# Altium footprint library Voltage Regulator.PcbLib: 8 footprints
Each footprint in its own frame and in the unit in brackets; x right, y up, seen from the top. Pads: shape width x height; smd on the part's side, far side on the other; paste and mask are expansions set on the pad; w line width, h text height; cw(c..) or ccw(c..) is an arc to the next point about the centre after c.
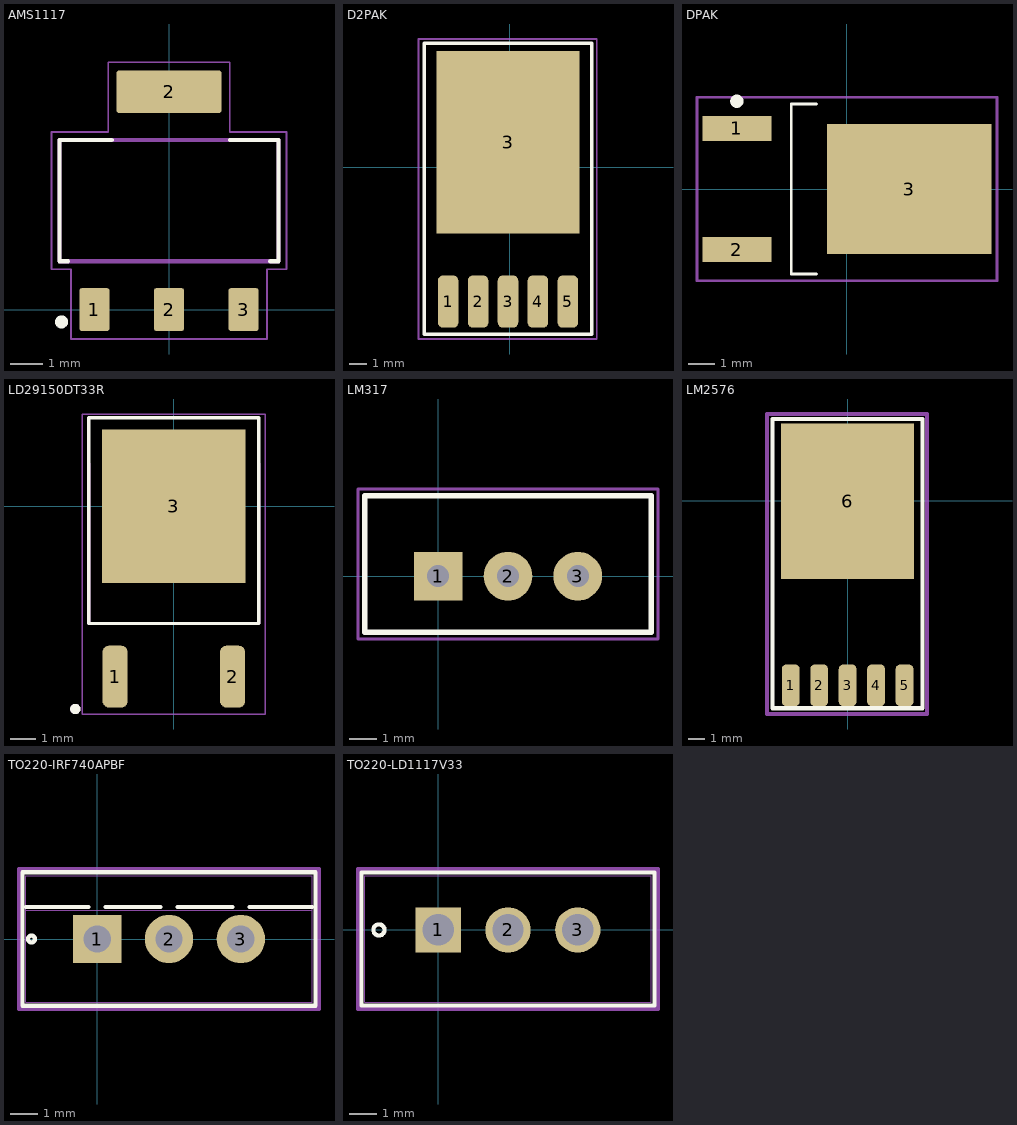
[diagram p0: the footprints below, top view; thin cyan lines are the x and y axes]

## AMS1117 [mm]
pads (4):
  rrect15% 0.93x1.31 smd: 1(-2.29,0) 2(0,0) 3(2.29,0)
  rrect15% 3.24x1.31 smd: 2(0,6.69)
Top Overlay:
  circle w0.2: c-3.302,-0.381 r0.1
  lines w0.127: -3.1,1.485 -3.36,1.485 -3.36,5.205 -1.76,5.205 ; 1.87,5.205 3.36,5.205 3.36,1.485 3.11,1.485
Mechanical 13:
  lines w0.127: -3.36,1.485 -3.36,5.205 3.36,5.205 3.36,1.485 -3.36,1.485
Mechanical 15:
  lines w0.05: -3.61,1.235 -3.61,5.455 -1.87,5.455 -1.87,7.595 1.87,7.595 1.87,5.455 3.61,5.455 3.61,1.235 3.01,1.235 3.01,-0.905 -3.01,-0.905 -3.01,1.235 -3.61,1.235
3D body "AMS1117.STEP": height 1.9, standoff 0.04, extent -3.252,-0.071 3.253,6.929

## D2PAK [mm]
pads (6):
  rrect50% 1.2x3.05 smd: 1(-3.6,-7.85) 2(-1.85,-7.85) 3(-0.1,-7.85) 4(1.65,-7.85) 5(3.4,-7.85)
  rect 8.38x10.66 smd mask+0.102: 3(-0.1,1.45)
Top Overlay:
  lines w0.2: -5,-9.75 4.8,-9.75 4.8,-3.75 4.8,7.25 -5,7.25 -5,-9.75
Mechanical 3:
  lines w0.1: -5.334,-10.033 -5.334,7.493 5.08,7.493 5.08,-10.033 -5.334,-10.033
Mechanical 15:
  lines w0.1: -1.25,0 1,0 ; 0,-1.25 0,1
3D body "TO263-5-1.stp": height 4.22, standoff 0, extent -5.011,-9.011 4.811,5.591

## DPAK [mm] "D-PAK, 3-Pads, Body 6,20x6,56mm (max), IPC Medium Density"
height 2.4
pads (3):
  rect 2.6x0.95 smd mask+0.05: 1(-4.15,2.28) 2(-4.15,-2.28)
  rect 6.2x4.9 smd mask+0.05: 3(2.35,0)
Top Overlay:
  circle w0.25: c-4.15,3.305 r0.125
  lines w0.1: -1.15,-3.2 -2.1,-3.2 -2.1,3.2 -1.15,3.2
Mechanical 15:
  lines w0.1: -0.5,0 0.5,0 ; 0,-0.5 0,0.5 ; -5.65,-3.45 -5.65,3.45 5.65,3.45 5.65,-3.45 -5.65,-3.45
3D body "DPAK.step": height 3.4, standoff 0, extent -4.275,-3.2 5.45,3.2

## LD29150DT33R [mm]
pads (3):
  rrect50% 0.98x2.4 smd: 1(-2.28,-6.62) 2(2.28,-6.62)
  rect 5.57x5.96 smd paste-4: 3(0,0)
Top Overlay:
  circle w0.2: c-3.825,-7.875 r0.1
  lines w0.127: -3.3,-4.557 3.3,-4.557 3.3,3.429 -3.3,3.429 -3.3,-4.557
Top Paste:
  region: -0.53,2.45 -0.53,0.53 -2.26,0.53 -2.26,2.45
  region: 2.26,2.45 2.26,0.53 0.53,0.53 0.53,2.45
  region: 2.26,-0.53 2.26,-2.45 0.53,-2.45 0.53,-0.53
  region: -0.53,-0.53 -0.53,-2.45 -2.26,-2.45 -2.26,-0.53
Mechanical 3:
  lines w0.05: -3.55,3.225 -3.55,3.575 3.55,3.575 3.55,3.225
Mechanical 13:
  circle w0.2: c-3.825,-7.875 r0.1
  lines w0.127: -3.3,1.642 -3.3,-4.557 3.3,-4.557 3.3,1.642
Mechanical 15:
  lines w0.05: -3.55,3.23 -3.55,-8.07 3.55,-8.07 3.55,3.23
3D body "to252-3_p4-56_l6-54_w6-04.stp": height 2.29, standoff -0.01, extent -3.27,-7.239 3.27,2.429

## LM317 [mil]
pads (3):
  rect 70x70 hole 31.5: 1(0,0)
  round 70 hole 31.5: 2(100,0) 3(200,0)
Top Overlay:
  lines w7.87: -105,-80 305,-80 305,115 -105,115 -105,-80
Mechanical 15:
  lines w3.94: -115,-90 315,-90 315,125 -115,125 -115,-90
3D body "LM317.STEP": height 748.03, standoff -364.17, extent -97.7,-71.74 296,107

## LM2576 [mm]
pads (6):
  rrect50% 1.07x2.5 smd mask+0.102: 1(-3.425,-11.1) 2(-1.713,-11.1) 3(0,-11.1) 4(1.712,-11.1) 5(3.425,-11.1)
  rect 8x9.347 smd mask+0.102: 6(0,-0.025)
Top Overlay:
  lines w0.254: -4.525,-12.475 4.5,-12.475 4.5,4.925 -4.525,4.925 -4.525,-12.475
Mechanical 3:
  lines w0.254: -4.85,-12.825 -4.85,5.225 4.775,5.225 4.775,-12.825 -4.85,-12.825
3D body "TO263-5-1.stp": height 4.22, standoff 0, extent -4.911,-11.1 4.911,3.502

## TO220-IRF740APBF [mil]
pads (3):
  rect 70x70 / inner round 70 / far side round 70 hole 39.37 mask+0: 1(0,0)
  round 70 hole 39.37 mask+0: 2(103.94,0) 3(207.87,0)
Top Overlay:
  circle w6: c-95,0 r5
  lines w6: -103.06,46.5 -12.3,46.5 ; 12.3,46.5 91.63,46.5 ; 116.24,46.5 195.57,46.5 ; 220.18,46.5 310.94,46.5 ; -108.06,-96.5 315.94,-96.5 315.94,96.5 -108.06,96.5 -108.06,-96.5
Mechanical 7:
Mechanical 13:
  circle w0: c-93.06,0 r5
  lines w1: -103.06,41.5 310.94,41.5 ; -103.06,-91.5 310.94,-91.5 310.94,91.5 -103.06,91.5 -103.06,-91.5
Mechanical 15:
  lines w6: -113.06,-101.5 -113.06,101.5 320.94,101.5 320.94,-101.5 -113.06,-101.5
3D body: height 10, standoff 0, extent 0,0 10,10
3D body "Mosfet IRF740 (1).step": height 732.28, standoff -392.83, extent -97.76,-84.92 307.76,45

## TO220-LD1117V33 [mil]
pads (3):
  rect 65x65 hole 45: 1(0,0)
  round 65 hole 45: 2(100,0) 3(200,0)
Top Overlay:
  circle w6: c-85,0 r8
  lines w6: -110,-108.5 310,-108.5 310,82.5 -110,82.5 -110,-108.5
Mechanical 13:
  circle w0: c-85,0 r8
  lines w1: -105,-103.5 305,-103.5 305,77.5 -105,77.5 -105,-103.5
  lines w6: -10,0 10,0 ; 0,-10 0,10
Mechanical 15:
  lines w6: -115,-113.5 -115,87.5 315,87.5 315,-113.5 -115,-113.5
3D body "regulator TO-220.step": height 905.51, standoff -236.22, extent -100.79,-102.2 300.79,75
3D body: height 10, standoff 0, extent 0,0 10,10